# Altium schematic symbol library CAP,Alum,47uF,35VDC,Radial,Thru.Schlib: 1 symbol
Pins are listed as number, name and electrical type; pins without a type are passive.

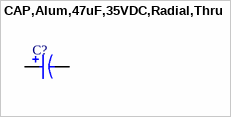
[diagram p0: symbol CAP,Alum,47uF,35VDC,Radial,Thru]

## CAP,Alum,47uF,35VDC,Radial,Thru
designator C?
pins: 1, 2